# Altium schematic symbol library BAS16LT1G.Schlib: 1 symbol
Pins are listed as number, name and electrical type; pins without a type are passive.

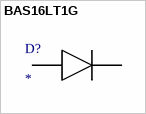
[diagram p0: symbol BAS16LT1G]

## BAS16LT1G
designator D?
Diode Schottky 60 V 1A (DC) Surface Mount SOD-123F
pins: 1 A, 3 C